# EAGLE library part XA10 (library connectors)
Connector 10 pins, alternating
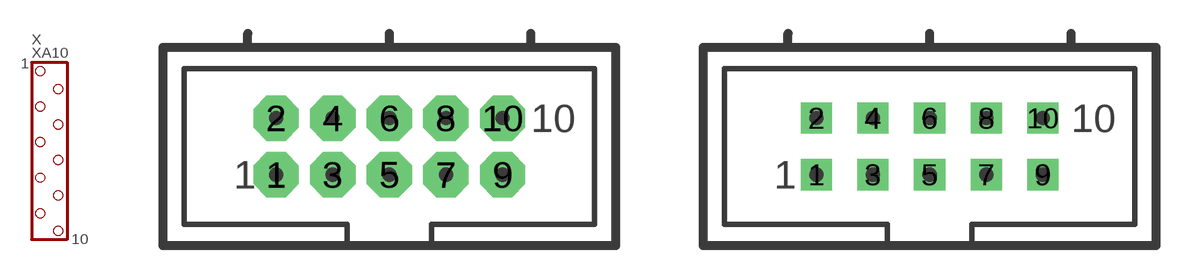
[diagram p7: symbol with the pads of X10N-IDC; footprints X10N-IDC, X10R-IDC]

Designator prefix X

## XA10I  [X10N-IDC]
1  1
2  2
3  3
4  4
5  5
6  6
7  7
8  8
9  9
10  10

## XA10IR  [X10R-IDC]
Pads as for X10N-IDC

## XA10N  [X10N-SIL]
Pads as for X10N-IDC

## XA10D  [X10N-DIL]
Pads as for X10N-IDC

## XA10DR  [X10R-DIL]
Pads as for X10N-IDC

## XA10R  [X10R-SIL]
Pads as for X10N-IDC

## XA10L  [X10L-SIL]
Pads as for X10N-IDC

## XA10  [X10N-IDC]
Pads as for X10N-IDC

## Footprint X10N-IDC (pad centres in mm)
Connector 10 pins, IDC
drill 0.889 pad 2.032 octagon: 1 -5.08,-1.27; 2 -5.08,1.27; 3 -2.54,-1.27; 4 -2.54,1.27; 5 0,-1.27; 6 0,1.27; 7 2.54,-1.27; 8 2.54,1.27; 9 5.08,-1.27; 10 5.08,1.27

## Footprint X10R-IDC (pad centres in mm)
Connector 10 pins, IDC, reduced pads
drill 0.889 pad 1.397 square: 1 -5.08,-1.27; 2 -5.08,1.27; 3 -2.54,-1.27; 4 -2.54,1.27; 5 0,-1.27; 6 0,1.27; 7 2.54,-1.27; 8 2.54,1.27; 9 5.08,-1.27; 10 5.08,1.27

## Footprint X10N-SIL (pad centres in mm)
Connector 10 pins, SIL
drill 0.889 pad 2.032 octagon: 1 -11.43,0; 2 -8.89,0; 3 -6.35,0; 4 -3.81,0; 5 -1.27,0; 6 1.27,0; 7 3.81,0; 8 6.35,0; 9 8.89,0; 10 11.43,0

## Footprint X10N-DIL (pad centres in mm)
Connector 10 pins, DIL
drill 0.889 pad 2.032 octagon: 1 -5.08,-1.27; 2 -5.08,1.27; 3 -2.54,-1.27; 4 -2.54,1.27; 5 0,-1.27; 6 0,1.27; 7 2.54,-1.27; 8 2.54,1.27; 9 5.08,-1.27; 10 5.08,1.27

## Footprint X10R-DIL (pad centres in mm)
Connector 10 pins, DIL, reduced pads
drill 0.889 pad 1.397 square: 1 -5.08,-1.27; 2 -5.08,1.27; 3 -2.54,-1.27; 4 -2.54,1.27; 5 0,-1.27; 6 0,1.27; 7 2.54,-1.27; 8 2.54,1.27; 9 5.08,-1.27; 10 5.08,1.27

## Footprint X10R-SIL (pad centres in mm)
Connector 10 pins, SIL, reduced pads
drill 0.889 pad 1.397 square: 1 -11.43,0; 2 -8.89,0; 3 -6.35,0; 4 -3.81,0; 5 -1.27,0; 6 1.27,0; 7 3.81,0; 8 6.35,0; 9 8.89,0; 10 11.43,0

## Footprint X10L-SIL (pad centres in mm)
Connector 10 pins, SIL, long pads
drill 0.889 pad 1.397 long: 1 -11.43,0; 2 -8.89,0; 3 -6.35,0; 4 -3.81,0; 5 -1.27,0; 6 1.27,0; 7 3.81,0; 8 6.35,0; 9 8.89,0; 10 11.43,0